# EAGLE library part PIC18F25K50 (library BaseApp)
Digikey No :- __PIC18F25K50-I/SS-ND__
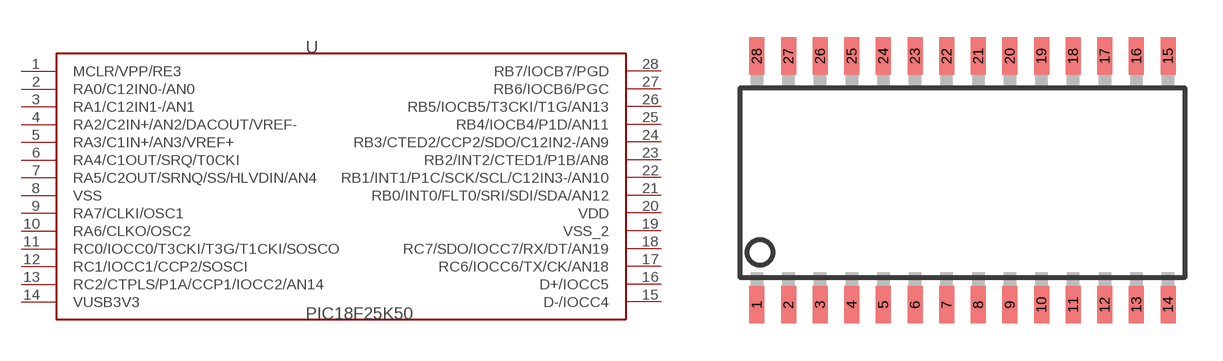
[diagram p29: symbol with the pads of SOIC-28; footprint SOIC-28]

Designator prefix -

## PIC18F25K50  [SOIC-28]
1  MCLR/VPP/RE3
2  RA0/C12IN0-/AN0
3  RA1/C12IN1-/AN1
4  RA2/C2IN+/AN2/DACOUT/VREF-
5  RA3/C1IN+/AN3/VREF+
6  RA4/C1OUT/SRQ/T0CKI
7  RA5/C2OUT/SRNQ/SS/HLVDIN/AN4
8  VSS
9  RA7/CLKI/OSC1
10  RA6/CLKO/OSC2
11  RC0/IOCC0/T3CKI/T3G/T1CKI/SOSCO
12  RC1/IOCC1/CCP2/SOSCI
13  RC2/CTPLS/P1A/CCP1/IOCC2/AN14
14  VUSB3V3
15  D-/IOCC4
16  D+/IOCC5
17  RC6/IOCC6/TX/CK/AN18
18  RC7/SDO/IOCC7/RX/DT/AN19
19  VSS_2
20  VDD
21  RB0/INT0/FLT0/SRI/SDI/SDA/AN12
22  RB1/INT1/P1C/SCK/SCL/C12IN3-/AN10
23  RB2/INT2/CTED1/P1B/AN8
24  RB3/CTED2/CCP2/SDO/C12IN2-/AN9
25  RB4/IOCB4/P1D/AN11
26  RB5/IOCB5/T3CKI/T1G/AN13
27  RB6/IOCB6/PGC
28  RB7/IOCB7/PGD

## Footprint SOIC-28 (pad centres in mm)
smd 0.6 x 1.5: 1 -5.715,-5; 2 -4.445,-5; 3 -3.175,-5; 4 -1.905,-5; 5 -0.635,-5; 6 0.635,-5; 7 1.905,-5; 8 3.175,-5; 9 4.445,-5; 10 5.715,-5; 11 6.985,-5; 12 8.255,-5; 13 9.525,-5; 14 10.795,-5; 15 10.795,5; 16 9.525,5; 17 8.255,5; 18 6.985,5; 19 5.715,5; 20 4.445,5; 21 3.175,5; 22 1.905,5; 23 0.635,5; 24 -0.635,5; 25 -1.905,5; 26 -3.175,5; 27 -4.445,5; 28 -5.715,5